# EAGLE library part SWITCH-SPDT-1CH (library Eagle_CAD_parts)
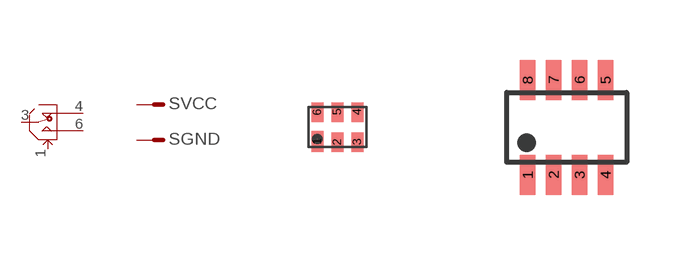
[diagram p66: symbol with the pads of 6-MICROPAK; footprints 6-MICROPAK, SOT-23-8]

Designator prefix S; gates A=SWITCH-SPDT VCC=PIN_1 GND=PIN_1

## SWITCH-SPDT-1CH_FSA5157L6X (DIGIKEY_PART_NUMBER: FSA5157L6XCT-ND; MANUFACTURER_PART_NUMBER: FSA5157L6X)  [6-MICROPAK]
1  A:CTRL
2  VCC:S  pas
3  A:COM
4  A:NC
5  GND:S  pas
6  A:NO

## SWITCH-SPDT-1CH_DG449 (DIGIKEY_PART_NUMBER: DG449DS-T1-E3CT-ND; MANUFACTURER_PART_NUMBER: DG449DS-T1-E3)  [SOT-23-8]
1  A:COM
2  A:NC
3  GND:S  pas
4  VCC:S  pas
6  A:CTRL
7  GND:S  pas
8  A:NO

## Footprint 6-MICROPAK (pad centres in mm)
smd 0.3 x 0.52: 1 -0.5,-0.36
smd 0.3 x 0.49: 2 0,-0.375; 3 0.5,-0.375; 4 0.5,0.375; 5 0,0.375; 6 -0.5,0.375

## Footprint SOT-23-8 (pad centres in mm)
smd 0.38 x 1: 1 -0.975,-1.188; 2 -0.325,-1.188; 3 0.325,-1.188; 4 0.975,-1.188; 5 0.975,1.188; 6 0.325,1.188; 7 -0.325,1.188; 8 -0.975,1.188